# Altium schematic symbol library BC557.SchLib: 1 symbol
Pins are listed as number, name and electrical type; pins without a type are passive.

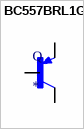
[diagram p0: symbol BC557BRL1G]

## BC557BRL1G
designator Q
Bipolar (BJT) Transistor PNP 45V 100mA 320MHz 625mW Through Hole TO-92-3; MF: ON Semiconductor; MP: BC557BRL1G; Availability: Good; Value: *; SnapEDA_Link: https://www.snapeda.com/parts/BC557BRL1G/ON%20Semiconductor/view-part/3219064/?ref=snap; Arrow_Electronics-Purchase-URL: https://snapeda.com/shop?store=Arrow+Electronics&id=3219064; Price: None; Package: TO-92 ON Semiconductor; DigiKey-Purchase-URL: https://snapeda.com/shop?store=DigiKey&id=3219064; BuyPart: https://www.snapeda.com/parts/BC557BRL1G/ON%20Semiconductor/view-part/3219064/?ref=eda
footprint TO92260P520H933-3_mod
pins: 1 C, 2 B, 3 E